# EAGLE library part DM3AT-SF-PEJM5 (library FlukeNic)
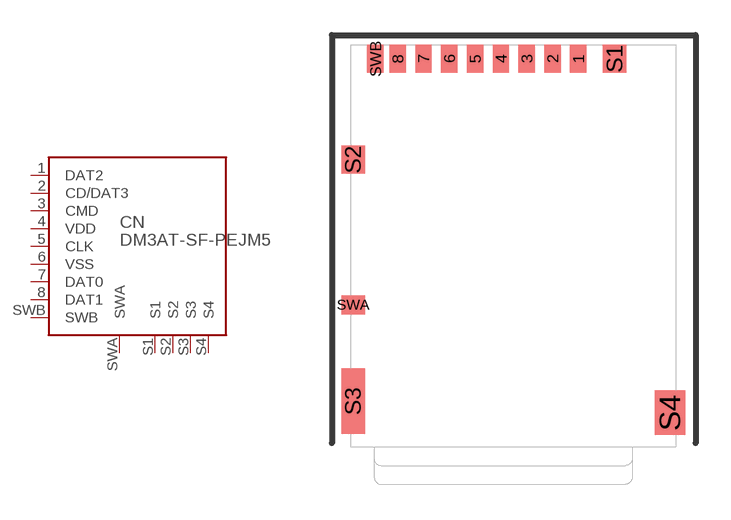
[diagram p2: symbol with the pads of DM3AT-SF-PEJM5; footprint DM3AT-SF-PEJM5]

Designator prefix CN

## DM3AT-SF-PEJM5  [DM3AT-SF-PEJM5]
1  DAT2
2  CD/DAT3
3  CMD
4  VDD  pwr
5  CLK  in
6  VSS  pwr
7  DAT0
8  DAT1
S1  S1  pwr
S2  S2  pwr
S3  S3  pwr
S4  S4  pwr
SWA  SWA  pas
SWB  SWB  pas

## Footprint DM3AT-SF-PEJM5 (pad centres in mm)
smd 0.7 x 1.2: 1 0,0.6; 2 -1.1,0.6; 3 -2.2,0.6; 4 -3.3,0.6; 5 -4.4,0.6; 6 -5.5,0.6; 7 -6.6,0.6; 8 -7.7,0.6; SWB -8.65,0.6
smd 1 x 1.2: S1 1.55,0.6; S2 -9.6,-3.7
smd 1 x 2.8: S3 -9.6,-14
smd 1.3 x 1.9: S4 3.9,-14.5
smd 1 x 0.8: SWA -9.6,-9.9